# Altium footprint library WR-WST.PcbLib: 18 footprints (part 1 of 2)
Each footprint in its own frame and in the unit in brackets; x right, y up, seen from the top. Pads: shape width x height; smd on the part's side, far side on the other; paste and mask are expansions set on the pad; w line width, h text height; cw(c..) or ccw(c..) is an arc to the next point about the centre after c.
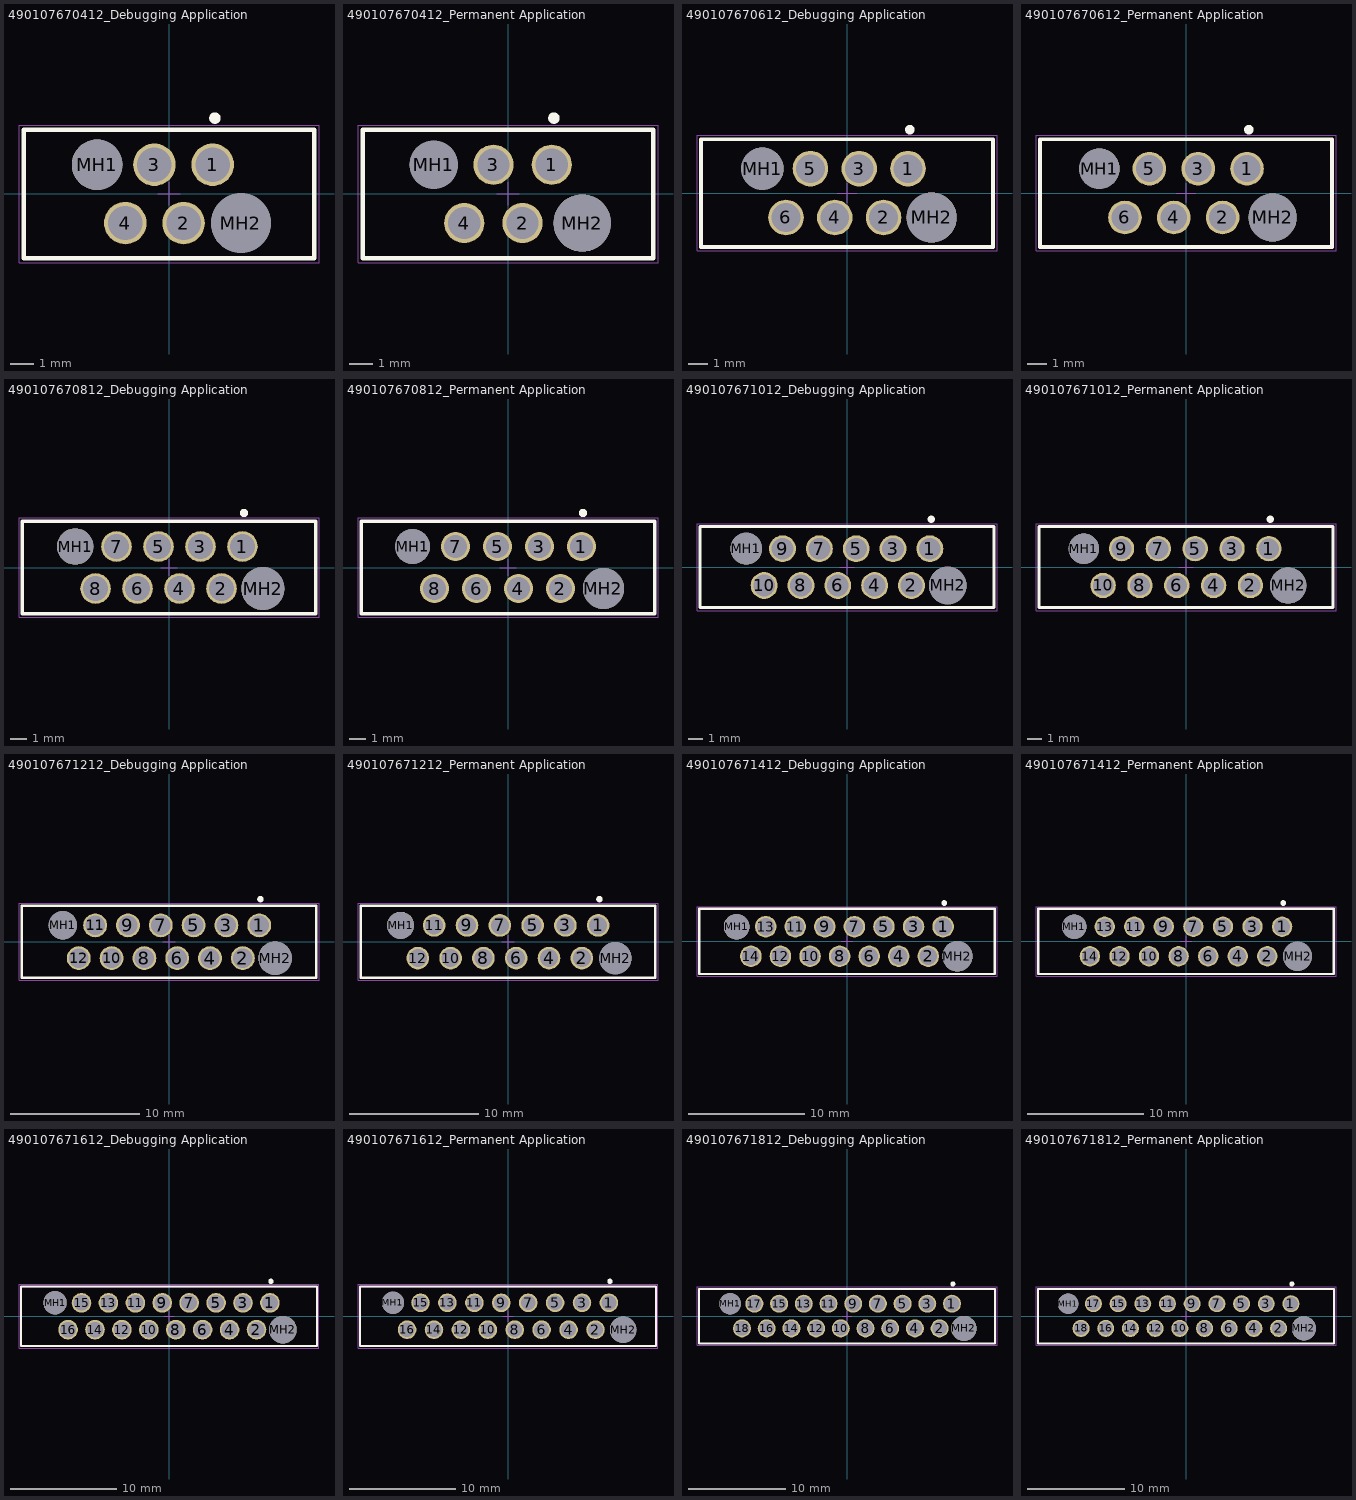
[diagram p0: the footprints below, top view; thin cyan lines are the x and y axes]

## 490107670412_Debugging Application [mm] "REDFIT IDC SKEDD Connector, pitch 2.54mm, 4p"
height 10.45
pads (6):
  round 1.85 hole 1.5: 1(1.905,1.27) 2(0.635,-1.27) 3(-0.635,1.27) 4(-1.905,-1.27)
  round 2.2 hole 2.2 unplated: MH1(-3.135,1.27)
  round 2.6 hole 2.6 unplated: MH2(3.135,-1.27)
Top Overlay:
  circle w0.25: c2,3.3 r0.125
  lines w0.2: -6.335,-2.8 -6.335,2.8 6.335,2.8 6.335,-2.8 -6.335,-2.8
Top Designator:
  text ".Designator" at -7.498,-0.5 h1.5
Top Component Outline:
  lines w0.1: -6.335,-2.8 6.335,-2.8 6.335,2.8 -6.335,2.8 -6.335,-2.8
Top Courtyard:
  lines w0.05: -0.5,0 0.5,0 ; 0,-0.5 0,0.5 ; -6.535,-3 6.535,-3 6.535,3 -6.535,3 -6.535,-3
3D body "490107670412.stp": height 10.5, standoff -4.45, extent -6.335,-2.8 6.335,2.8

## 490107670412_Permanent Application [mm] "REDFIT IDC SKEDD Connector, pitch 2.54mm, 4p"
height 10.45
pads (6):
  round 1.75 hole 1.4: 1(1.905,1.27) 2(0.635,-1.27) 3(-0.635,1.27) 4(-1.905,-1.27)
  round 2.1 hole 2.1 unplated: MH1(-3.235,1.27)
  round 2.5 hole 2.5 unplated: MH2(3.235,-1.27)
Top Overlay:
  circle w0.25: c2,3.3 r0.125
  lines w0.2: -6.335,-2.8 6.335,-2.8 6.335,2.8 -6.335,2.8 -6.335,-2.8
Top Designator:
  text ".Designator" at -7.498,-0.5 h1.5
Top Component Outline:
  lines w0.1: -6.335,-2.8 -6.335,2.8 6.335,2.8 6.335,-2.8 -6.335,-2.8
Top Courtyard:
  lines w0.05: -0.5,0 0.5,0 ; 0,-0.5 0,0.5 ; -6.535,-3 -6.535,3 6.535,3 6.535,-3 -6.535,-3
3D body "490107670412.stp": height 10.5, standoff -4.45, extent -6.335,-2.8 6.335,2.8

## 490107670612_Debugging Application [mm] "REDFIT IDC SKEDD Connector, pitch 2.54mm, 6p"
height 10.45
pads (8):
  round 1.85 hole 1.5: 1(3.175,1.27) 2(1.905,-1.27) 3(0.635,1.27) 4(-0.635,-1.27) 5(-1.905,1.27) 6(-3.175,-1.27)
  round 2.2 hole 2.2 unplated: MH1(-4.405,1.27)
  round 2.6 hole 2.6 unplated: MH2(4.405,-1.27)
Top Overlay:
  circle w0.25: c3.27,3.3 r0.125
  lines w0.2: -7.605,-2.8 -7.605,2.8 7.605,2.8 7.605,-2.8 -7.605,-2.8
Top Designator:
  text ".Designator" at -7.498,-0.5 h1.5
Top Component Outline:
  lines w0.1: -7.605,-2.8 7.605,-2.8 7.605,2.8 -7.605,2.8 -7.605,-2.8
Top Courtyard:
  lines w0.05: -0.5,0 0.5,0 ; 0,-0.5 0,0.5 ; -7.805,-3 7.805,-3 7.805,3 -7.805,3 -7.805,-3
3D body "490107670612.stp": height 10.5, standoff -4.45, extent -7.605,-2.8 7.605,2.8

## 490107670612_Permanent Application [mm] "REDFIT IDC SKEDD Connector, pitch 2.54mm, 6p"
height 10.45
pads (8):
  round 1.75 hole 1.4: 1(3.175,1.27) 2(1.905,-1.27) 3(0.635,1.27) 4(-0.635,-1.27) 5(-1.905,1.27) 6(-3.175,-1.27)
  round 2.1 hole 2.1 unplated: MH1(-4.505,1.27)
  round 2.5 hole 2.5 unplated: MH2(4.505,-1.27)
Top Overlay:
  circle w0.25: c3.27,3.3 r0.125
  lines w0.2: -7.605,-2.8 7.605,-2.8 7.605,2.8 -7.605,2.8 -7.605,-2.8
Top Designator:
  text ".Designator" at -7.498,-0.5 h1.5
Top Component Outline:
  lines w0.1: -7.605,-2.8 -7.605,2.8 7.605,2.8 7.605,-2.8 -7.605,-2.8
Top Courtyard:
  lines w0.05: -0.5,0 0.5,0 ; 0,-0.5 0,0.5 ; -7.805,-3 -7.805,3 7.805,3 7.805,-3 -7.805,-3
3D body "490107670612.stp": height 10.5, standoff -4.45, extent -7.605,-2.8 7.605,2.8

## 490107670812_Debugging Application [mm] "REDFIT IDC SKEDD Connector, pitch 2.54mm, 8p"
height 10.45
pads (10):
  round 1.85 hole 1.5: 1(4.445,1.27) 2(3.175,-1.27) 3(1.905,1.27) 4(0.635,-1.27) 5(-0.635,1.27) 6(-1.905,-1.27) 7(-3.175,1.27) 8(-4.445,-1.27)
  round 2.2 hole 2.2 unplated: MH1(-5.675,1.27)
  round 2.6 hole 2.6 unplated: MH2(5.675,-1.27)
Top Overlay:
  circle w0.25: c4.54,3.3 r0.125
  lines w0.2: -8.875,-2.8 8.875,-2.8 8.875,2.8 -8.875,2.8 -8.875,-2.8
Top Designator:
  text ".Designator" at -7.498,-0.5 h1.5
Top Component Outline:
  lines w0.1: -8.875,-2.8 -8.875,2.8 8.875,2.8 8.875,-2.8 -8.875,-2.8
Top Courtyard:
  lines w0.05: -0.5,0 0.5,0 ; 0,-0.5 0,0.5 ; -9.075,-3 -9.075,3 9.075,3 9.075,-3 -9.075,-3
3D body "490107670812.stp": height 10.5, standoff -4.45, extent -8.875,-2.8 8.875,2.8

## 490107670812_Permanent Application [mm] "REDFIT IDC SKEDD Connector, pitch 2.54mm, 8p"
height 10.45
pads (10):
  round 1.75 hole 1.4: 1(4.445,1.27) 2(3.175,-1.27) 3(1.905,1.27) 4(0.635,-1.27) 5(-0.635,1.27) 6(-1.905,-1.27) 7(-3.175,1.27) 8(-4.445,-1.27)
  round 2.1 hole 2.1 unplated: MH1(-5.775,1.27)
  round 2.5 hole 2.5 unplated: MH2(5.775,-1.27)
Top Overlay:
  circle w0.25: c4.54,3.3 r0.125
  lines w0.2: -8.875,-2.8 8.875,-2.8 8.875,2.8 -8.875,2.8 -8.875,-2.8
Top Designator:
  text ".Designator" at -7.498,-0.5 h1.5
Top Component Outline:
  lines w0.1: -8.875,-2.8 -8.875,2.8 8.875,2.8 8.875,-2.8 -8.875,-2.8
Top Courtyard:
  lines w0.05: -0.5,0 0.5,0 ; 0,-0.5 0,0.5 ; -9.075,-3 -9.075,3 9.075,3 9.075,-3 -9.075,-3
3D body "490107670812.stp": height 10.5, standoff -4.45, extent -8.875,-2.8 8.875,2.8

## 490107671012_Debugging Application [mm] "REDFIT IDC SKEDD Connector, pitch 2.54mm, 10p"
height 10.45
pads (12):
  round 1.85 hole 1.5: 1(5.715,1.27) 2(4.445,-1.27) 3(3.175,1.27) 4(1.905,-1.27) 5(0.635,1.27) 6(-0.635,-1.27) 7(-1.905,1.27) 8(-3.175,-1.27) 9(-4.445,1.27) 10(-5.715,-1.27)
  round 2.2 hole 2.2 unplated: MH1(-6.945,1.27)
  round 2.6 hole 2.6 unplated: MH2(6.945,-1.27)
Top Overlay:
  circle w0.25: c5.81,3.3 r0.125
  lines w0.2: -10.145,-2.8 -10.145,2.8 10.145,2.8 10.145,-2.8 -10.145,-2.8
Top Designator:
  text ".Designator" at -7.498,-0.5 h1.5
Top Component Outline:
  lines w0.1: -10.145,-2.8 10.145,-2.8 10.145,2.8 -10.145,2.8 -10.145,-2.8
Top Courtyard:
  lines w0.05: -0.5,0 0.5,0 ; 0,-0.5 0,0.5 ; -10.345,-3 10.345,-3 10.345,3 -10.345,3 -10.345,-3
3D body "490107671012.stp": height 10.5, standoff -4.45, extent -10.145,-2.8 10.145,2.8

## 490107671012_Permanent Application [mm] "REDFIT IDC SKEDD Connector, pitch 2.54mm, 10p"
height 10.45
pads (12):
  round 1.75 hole 1.4: 1(5.715,1.27) 2(4.445,-1.27) 3(3.175,1.27) 4(1.905,-1.27) 5(0.635,1.27) 6(-0.635,-1.27) 7(-1.905,1.27) 8(-3.175,-1.27) 9(-4.445,1.27) 10(-5.715,-1.27)
  round 2.1 hole 2.1 unplated: MH1(-7.045,1.27)
  round 2.5 hole 2.5 unplated: MH2(7.045,-1.27)
Top Overlay:
  circle w0.25: c5.81,3.3 r0.125
  lines w0.2: -10.145,-2.8 -10.145,2.8 10.145,2.8 10.145,-2.8 -10.145,-2.8
Top Designator:
  text ".Designator" at -7.498,-0.5 h1.5
Top Component Outline:
  lines w0.1: -10.145,-2.8 10.145,-2.8 10.145,2.8 -10.145,2.8 -10.145,-2.8
Top Courtyard:
  lines w0.05: -0.5,0 0.5,0 ; 0,-0.5 0,0.5 ; -10.345,-3 10.345,-3 10.345,3 -10.345,3 -10.345,-3
3D body "490107671012.stp": height 10.5, standoff -4.45, extent -10.145,-2.8 10.145,2.8

## 490107671212_Debugging Application [mm] "REDFIT IDC SKEDD Connector, pitch 2.54mm, 12p"
height 10.45
pads (14):
  round 1.85 hole 1.5: 1(6.985,1.27) 2(5.715,-1.27) 3(4.445,1.27) 4(3.175,-1.27) 5(1.905,1.27) 6(0.635,-1.27) 7(-0.635,1.27) 8(-1.905,-1.27) 9(-3.175,1.27) 10(-4.445,-1.27) 11(-5.715,1.27) 12(-6.985,-1.27)
  round 2.2 hole 2.2 unplated: MH1(-8.215,1.27)
  round 2.6 hole 2.6 unplated: MH2(8.215,-1.27)
Top Overlay:
  circle w0.25: c7.08,3.3 r0.125
  lines w0.2: -11.415,-2.8 11.415,-2.8 11.415,2.8 -11.415,2.8 -11.415,-2.8
Top Designator:
  text ".Designator" at -7.498,-0.5 h1.5
Top Component Outline:
  lines w0.1: -11.415,-2.8 -11.415,2.8 11.415,2.8 11.415,-2.8 -11.415,-2.8
Top Courtyard:
  lines w0.05: -0.5,0 0.5,0 ; 0,-0.5 0,0.5 ; -11.615,-3 -11.615,3 11.615,3 11.615,-3 -11.615,-3
3D body "490107671212.stp": height 10.5, standoff -4.45, extent -11.415,-2.8 11.415,2.8

## 490107671212_Permanent Application [mm] "REDFIT IDC SKEDD Connector, pitch 2.54mm, 12p"
height 10.45
pads (14):
  round 1.75 hole 1.4: 1(6.985,1.27) 2(5.715,-1.27) 3(4.445,1.27) 4(3.175,-1.27) 5(1.905,1.27) 6(0.635,-1.27) 7(-0.635,1.27) 8(-1.905,-1.27) 9(-3.175,1.27) 10(-4.445,-1.27) 11(-5.715,1.27) 12(-6.985,-1.27)
  round 2.1 hole 2.1 unplated: MH1(-8.315,1.27)
  round 2.5 hole 2.5 unplated: MH2(8.315,-1.27)
Top Overlay:
  circle w0.25: c7.08,3.3 r0.125
  lines w0.2: -11.415,-2.8 11.415,-2.8 11.415,2.8 -11.415,2.8 -11.415,-2.8
Top Designator:
  text ".Designator" at -7.498,-0.5 h1.5
Top Component Outline:
  lines w0.1: -11.415,-2.8 -11.415,2.8 11.415,2.8 11.415,-2.8 -11.415,-2.8
Top Courtyard:
  lines w0.05: -0.5,0 0.5,0 ; 0,-0.5 0,0.5 ; -11.615,-3 -11.615,3 11.615,3 11.615,-3 -11.615,-3
3D body "490107671212.stp": height 10.5, standoff -4.45, extent -11.415,-2.8 11.415,2.8

## 490107671412_Debugging Application [mm] "REDFIT IDC SKEDD Connector, pitch 2.54mm, 14p"
height 10.45
pads (16):
  round 1.85 hole 1.5: 1(8.255,1.27) 2(6.985,-1.27) 3(5.715,1.27) 4(4.445,-1.27) 5(3.175,1.27) 6(1.905,-1.27) 7(0.635,1.27) 8(-0.635,-1.27) 9(-1.905,1.27) 10(-3.175,-1.27) 11(-4.445,1.27) 12(-5.715,-1.27) 13(-6.985,1.27) 14(-8.255,-1.27)
  round 2.2 hole 2.2 unplated: MH1(-9.485,1.27)
  round 2.6 hole 2.6 unplated: MH2(9.485,-1.27)
Top Overlay:
  circle w0.25: c8.35,3.3 r0.125
  lines w0.2: -12.685,-2.8 -12.685,2.8 12.685,2.8 12.685,-2.8 -12.685,-2.8
Top Designator:
  text ".Designator" at -7.498,-0.5 h1.5
Top Component Outline:
  lines w0.1: -12.685,-2.8 12.685,-2.8 12.685,2.8 -12.685,2.8 -12.685,-2.8
Top Courtyard:
  lines w0.05: -0.5,0 0.5,0 ; 0,-0.5 0,0.5 ; -12.885,-3 12.885,-3 12.885,3 -12.885,3 -12.885,-3
3D body "490107671412.stp": height 10.5, standoff -4.45, extent -12.685,-2.8 12.685,2.8

## 490107671412_Permanent Application [mm] "REDFIT IDC SKEDD Connector, pitch 2.54mm, 14p"
height 10.45
pads (16):
  round 1.75 hole 1.4: 1(8.255,1.27) 2(6.985,-1.27) 3(5.715,1.27) 4(4.445,-1.27) 5(3.175,1.27) 6(1.905,-1.27) 7(0.635,1.27) 8(-0.635,-1.27) 9(-1.905,1.27) 10(-3.175,-1.27) 11(-4.445,1.27) 12(-5.715,-1.27) 13(-6.985,1.27) 14(-8.255,-1.27)
  round 2.1 hole 2.1 unplated: MH1(-9.585,1.27)
  round 2.5 hole 2.5 unplated: MH2(9.585,-1.27)
Top Overlay:
  circle w0.25: c8.35,3.3 r0.125
  lines w0.2: -12.685,-2.8 12.685,-2.8 12.685,2.8 -12.685,2.8 -12.685,-2.8
Top Designator:
  text ".Designator" at -7.498,-0.5 h1.5
Top Component Outline:
  lines w0.1: -12.685,-2.8 -12.685,2.8 12.685,2.8 12.685,-2.8 -12.685,-2.8
Top Courtyard:
  lines w0.05: -0.5,0 0.5,0 ; 0,-0.5 0,0.5 ; -12.885,-3 -12.885,3 12.885,3 12.885,-3 -12.885,-3
3D body "490107671412.stp": height 10.5, standoff -4.45, extent -12.685,-2.8 12.685,2.8

## 490107671612_Debugging Application [mm] "REDFIT IDC SKEDD Connector, pitch 2.54mm, 16p"
height 10.45
pads (18):
  round 1.85 hole 1.5: 1(9.525,1.27) 2(8.255,-1.27) 3(6.985,1.27) 4(5.715,-1.27) 5(4.445,1.27) 6(3.175,-1.27) 7(1.905,1.27) 8(0.635,-1.27) 9(-0.635,1.27) 10(-1.905,-1.27) 11(-3.175,1.27) 12(-4.445,-1.27) 13(-5.715,1.27) 14(-6.985,-1.27) 15(-8.255,1.27) 16(-9.525,-1.27)
  round 2.2 hole 2.2 unplated: MH1(-10.755,1.27)
  round 2.6 hole 2.6 unplated: MH2(10.755,-1.27)
Top Overlay:
  circle w0.25: c9.62,3.3 r0.125
  lines w0.2: -13.955,-2.8 13.955,-2.8 13.955,2.8 -13.955,2.8 -13.955,-2.8
Top Designator:
  text ".Designator" at -7.498,-0.5 h1.5
Top Component Outline:
  lines w0.1: -13.955,-2.8 -13.955,2.8 13.955,2.8 13.955,-2.8 -13.955,-2.8
Top Courtyard:
  lines w0.05: -0.5,0 0.5,0 ; 0,-0.5 0,0.5 ; -14.155,-3 -14.155,3 14.155,3 14.155,-3 -14.155,-3
3D body "490107671612.stp": height 10.5, standoff -4.45, extent -13.955,-2.8 13.955,2.8

## 490107671612_Permanent Application [mm] "REDFIT IDC SKEDD Connector, pitch 2.54mm, 16p"
height 10.45
pads (18):
  round 1.75 hole 1.4: 1(9.525,1.27) 2(8.255,-1.27) 3(6.985,1.27) 4(5.715,-1.27) 5(4.445,1.27) 6(3.175,-1.27) 7(1.905,1.27) 8(0.635,-1.27) 9(-0.635,1.27) 10(-1.905,-1.27) 11(-3.175,1.27) 12(-4.445,-1.27) 13(-5.715,1.27) 14(-6.985,-1.27) 15(-8.255,1.27) 16(-9.525,-1.27)
  round 2.1 hole 2.1 unplated: MH1(-10.855,1.27)
  round 2.5 hole 2.5 unplated: MH2(10.855,-1.27)
Top Overlay:
  circle w0.25: c9.62,3.3 r0.125
  lines w0.2: -13.955,-2.8 13.955,-2.8 13.955,2.8 -13.955,2.8 -13.955,-2.8
Top Designator:
  text ".Designator" at -7.498,-0.5 h1.5
Top Component Outline:
  lines w0.1: -13.955,-2.8 -13.955,2.8 13.955,2.8 13.955,-2.8 -13.955,-2.8
Top Courtyard:
  lines w0.05: -0.5,0 0.5,0 ; 0,-0.5 0,0.5 ; -14.155,-3 -14.155,3 14.155,3 14.155,-3 -14.155,-3
3D body "490107671612.stp": height 10.5, standoff -4.45, extent -13.955,-2.8 13.955,2.8

## 490107671812_Debugging Application [mm] "REDFIT IDC SKEDD Connector, pitch 2.54mm, 18p"
height 10.45
pads (20):
  round 1.85 hole 1.5: 1(10.795,1.27) 2(9.525,-1.27) 3(8.255,1.27) 4(6.985,-1.27) 5(5.715,1.27) 6(4.445,-1.27) 7(3.175,1.27) 8(1.905,-1.27) 9(0.635,1.27) 10(-0.635,-1.27) 11(-1.905,1.27) 12(-3.175,-1.27) 13(-4.445,1.27) 14(-5.715,-1.27) 15(-6.985,1.27) 16(-8.255,-1.27) 17(-9.525,1.27) 18(-10.795,-1.27)
  round 2.2 hole 2.2 unplated: MH1(-12.025,1.27)
  round 2.6 hole 2.6 unplated: MH2(12.025,-1.27)
Top Overlay:
  circle w0.25: c10.89,3.3 r0.125
  lines w0.2: -15.225,-2.8 -15.225,2.8 15.225,2.8 15.225,-2.8 -15.225,-2.8
Top Designator:
  text ".Designator" at -7.498,-0.5 h1.5
Top Component Outline:
  lines w0.1: -15.225,-2.8 15.225,-2.8 15.225,2.8 -15.225,2.8 -15.225,-2.8
Top Courtyard:
  lines w0.05: -0.5,0 0.5,0 ; 0,-0.5 0,0.5 ; -15.425,-3 15.425,-3 15.425,3 -15.425,3 -15.425,-3
3D body "490107671812.stp": height 10.5, standoff -4.45, extent -15.225,-2.8 15.225,2.8

## 490107671812_Permanent Application [mm] "REDFIT IDC SKEDD Connector, pitch 2.54mm, 18p"
height 10.45
pads (20):
  round 1.75 hole 1.4: 1(10.795,1.27) 2(9.525,-1.27) 3(8.255,1.27) 4(6.985,-1.27) 5(5.715,1.27) 6(4.445,-1.27) 7(3.175,1.27) 8(1.905,-1.27) 9(0.635,1.27) 10(-0.635,-1.27) 11(-1.905,1.27) 12(-3.175,-1.27) 13(-4.445,1.27) 14(-5.715,-1.27) 15(-6.985,1.27) 16(-8.255,-1.27) 17(-9.525,1.27) 18(-10.795,-1.27)
  round 2.1 hole 2.1 unplated: MH1(-12.125,1.27)
  round 2.5 hole 2.5 unplated: MH2(12.125,-1.27)
Top Overlay:
  circle w0.25: c10.89,3.3 r0.125
  lines w0.2: -15.225,-2.8 -15.225,2.8 15.225,2.8 15.225,-2.8 -15.225,-2.8
Top Designator:
  text ".Designator" at -7.498,-0.5 h1.5
Top Component Outline:
  lines w0.1: -15.225,-2.8 15.225,-2.8 15.225,2.8 -15.225,2.8 -15.225,-2.8
Top Courtyard:
  lines w0.05: -0.5,0 0.5,0 ; 0,-0.5 0,0.5 ; -15.425,-3 15.425,-3 15.425,3 -15.425,3 -15.425,-3
3D body "490107671812.stp": height 10.5, standoff -4.45, extent -15.225,-2.8 15.225,2.8